# Altium schematic symbol library SCH - CONNECTORS - SAMTEC - HSEC8-130-01-XX-DV-A-BL.SCHLIB: 1 symbol
Pins are listed as number, name and electrical type; pins without a type are passive.

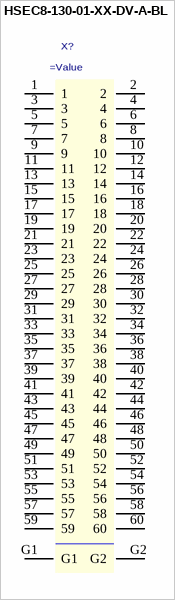
[diagram p0: symbol HSEC8-130-01-XX-DV-A-BL]

## HSEC8-130-01-XX-DV-A-BL
designator X?
0.8mm High Speed Edge Card Assembly
pins: 1, 2, 3, 4, 5, 6, 7, 8, 9, 10, 11, 12, 13, 14, 15, 16, 17, 18, 19, 20, 21, 22, 23, 24, 25, 26, 27, 28, 29, 30, 31, 32, 33, 34, 35, 36, 37, 38, 39, 40, 41, 42, 43, 44, 45, 46, 47, 48, 49, 50, 51, 52, 53, 54, 55, 56, 57, 58, 59, 60, G1, G2